# Altium schematic symbol library Connectors.SchLib: 71 symbols
Pins are listed as number, name and electrical type; pins without a type are passive.

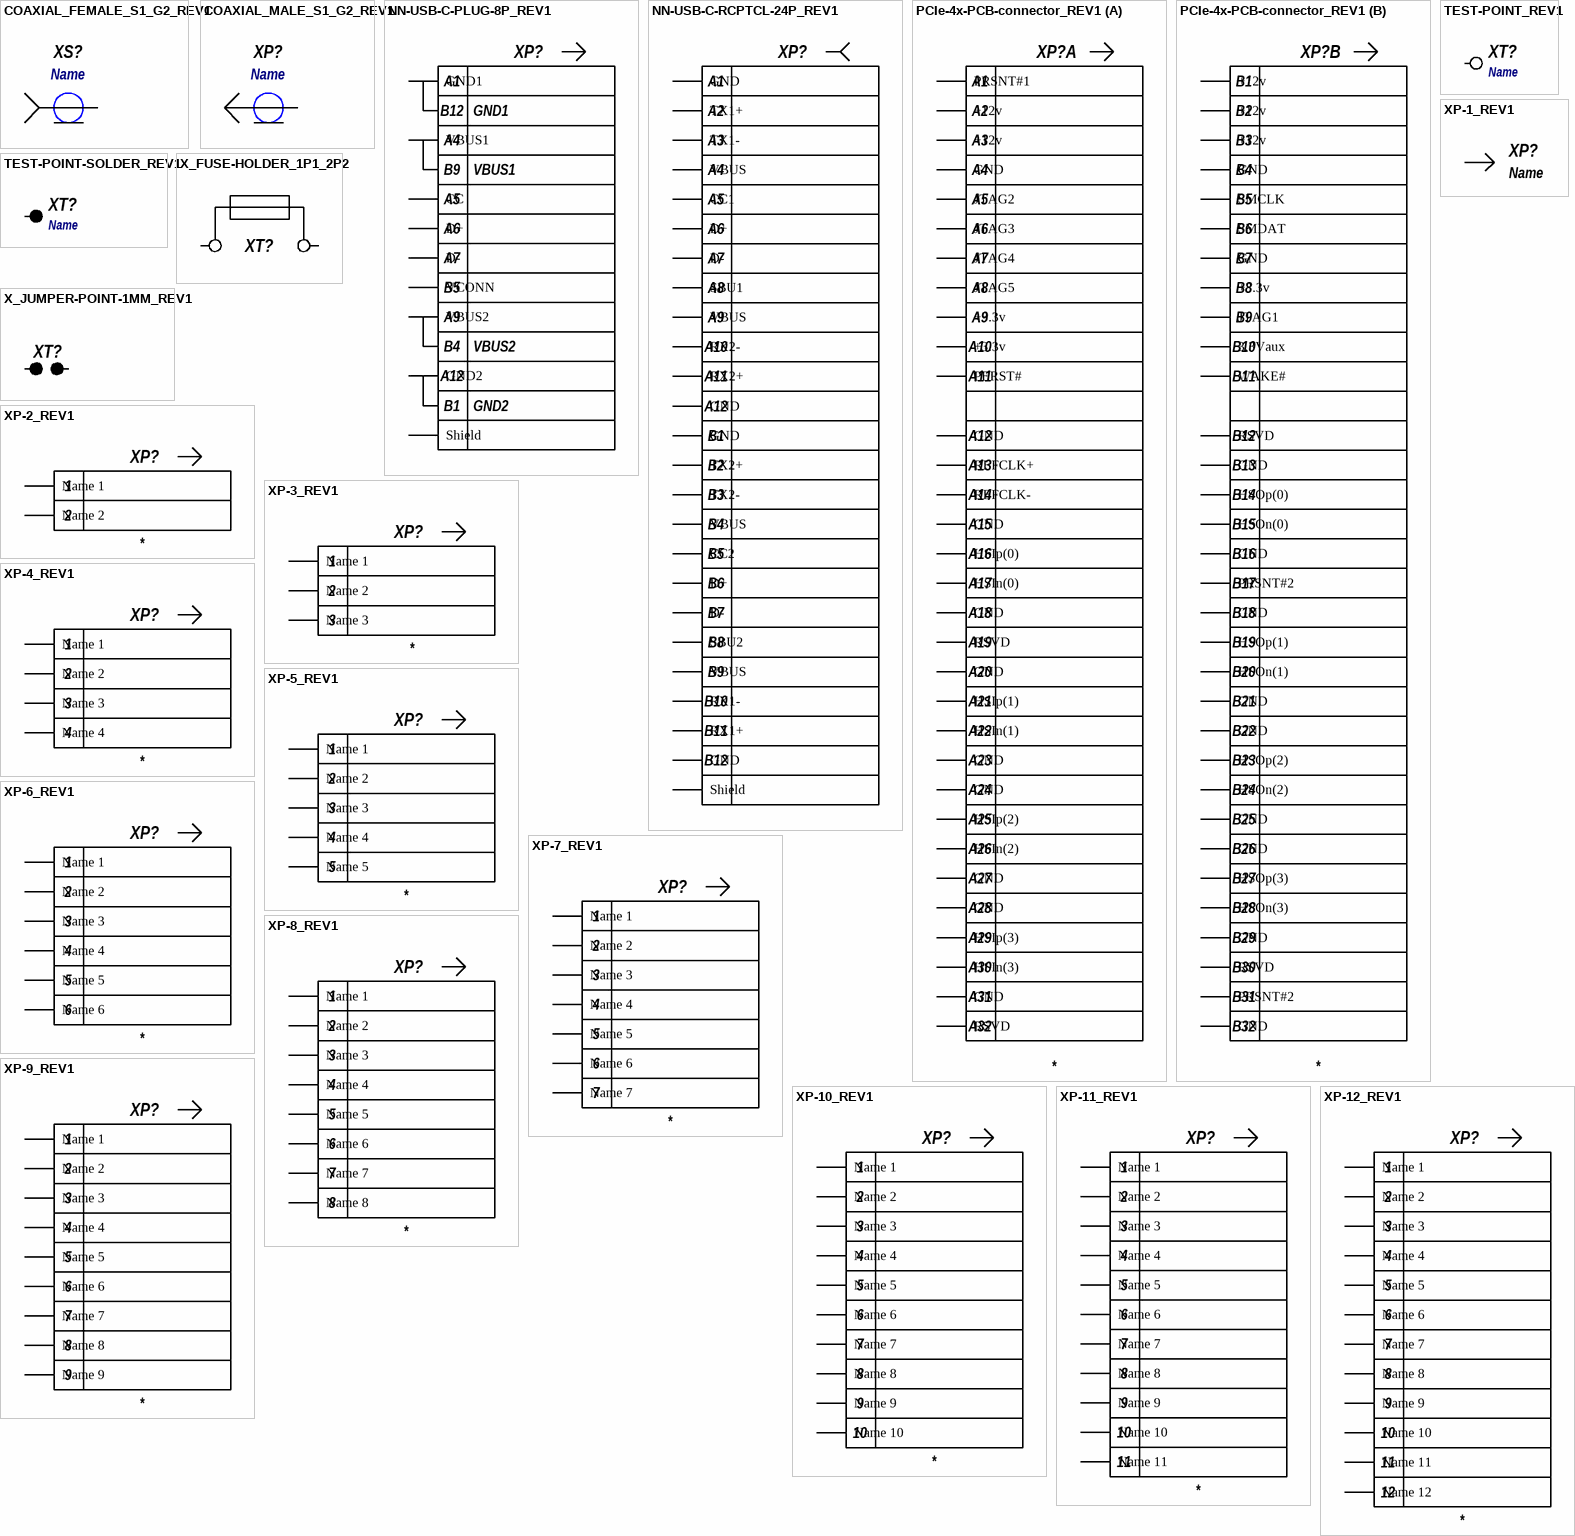
[diagram p0: symbols COAXIAL_FEMALE_S1_G2_REV1 to XP-12_REV1]

## COAXIAL_FEMALE_S1_G2_REV1
designator XS?
Name: Name
pins: 1, 2

## COAXIAL_MALE_S1_G2_REV1
designator XP?
Name: Name
pins: 1, 2

## NN-USB-C-PLUG-8P_REV1
designator XP?  (value not drawn)
PartNumber: *
footprint USB-C-PLUG-8P
pins: A1 GND1, A4 VBUS1, A5 CC, A6 D+, A7 D-, A9 VBUS2, A12 GND2, B5 VCONN, Shield
text: B12; B9; B4; B1

## NN-USB-C-RCPTCL-24P_REV1
designator XP?  (value not drawn)
PartNumber: *
pins: A1 GND, A2 TX1+, A3 TX1-, A4 VBUS, A5 CC1, A6 D+, A7 D-, A8 SBU1, A9 VBUS, A10 RX2-, A11 RX2+, A12 GND, B1 GND, B2 TX2+, B3 TX2-, B4 VBUS, B5 CC2, B6 D+, B7 D-, B8 SBU2, B9 VBUS, B10 RX1-, B11 RX1+, B12 GND, Shield

## PCIe-4x-PCB-connector_REV1
designator XP?
PartNumber: *
footprint PCIe-4x-PCB-connector (PCB connector for PCI Express 4 line)
part A pins: A1 PRSNT#1, A2 +12v, A3 +12v, A4 GND, A5 JTAG2, A6 JTAG3, A7 JTAG4, A8 JTAG5, A9 +3.3v, A10 +3.3v, A11 PERST#, A12 GND, A13 REFCLK+, A14 REFCLK-, A15 GND, A16 HSIp(0), A17 HSIn(0), A18 GND, A19 RSVD, A20 GND, A21 HSIp(1), A22 HSIn(1), A23 GND, A24 GND, A25 HSIp(2), A26 HSIn(2), A27 GND, A28 GND, A29 HSIp(3), A30 HSIn(3), A31 GND, A32 RSVD
part B pins: B1 +12v, B2 +12v, B3 +12v, B4 GND, B5 SMCLK, B6 SMDAT, B7 GND, B8 +3.3v, B9 JTAG1, B10 3.3Vaux, B11 WAKE#, B12 RSVD, B13 GND, B14 HSOp(0), B15 HSOn(0), B16 GND, B17 PRSNT#2, B18 GND, B19 HSOp(1), B20 HSOn(1), B21 GND, B22 GND, B23 HSOp(2), B24 HSOn(2), B25 GND, B26 GND, B27 HSOp(3), B28 HSOn(3), B29 GND, B30 RSVD, B31 PRSNT#2, B32 GND

## TEST-POINT-SOLDER_REV1
designator XT?
Name: Name
pins: 1

## TEST-POINT_REV1
designator XT?
Name: Name
pins: 1

## X_FUSE-HOLDER_1P1_2P2
designator XT?
PartNumber: *
pins: 1, 2

## X_JUMPER-POINT-1MM_REV1
designator XT?
PartNumber: *
pins: 1, 2

## XP-1_REV1
designator XP?  (value not drawn)
PartNumber: *; Name: Name
pins: 1 =Name

## XP-2_REV1
designator XP?
PartNumber: *
pins: 1 Name 1, 2 Name 2

## XP-3_REV1
designator XP?
PartNumber: *
pins: 1 Name 1, 2 Name 2, 3 Name 3

## XP-4_REV1
designator XP?
PartNumber: *
pins: 1 Name 1, 2 Name 2, 3 Name 3, 4 Name 4

## XP-5_REV1
designator XP?
PartNumber: *
pins: 1 Name 1, 2 Name 2, 3 Name 3, 4 Name 4, 5 Name 5

## XP-6_REV1
designator XP?
PartNumber: *
pins: 1 Name 1, 2 Name 2, 3 Name 3, 4 Name 4, 5 Name 5, 6 Name 6

## XP-7_REV1
designator XP?
PartNumber: *
pins: 1 Name 1, 2 Name 2, 3 Name 3, 4 Name 4, 5 Name 5, 6 Name 6, 7 Name 7

## XP-8_REV1
designator XP?
PartNumber: *
pins: 1 Name 1, 2 Name 2, 3 Name 3, 4 Name 4, 5 Name 5, 6 Name 6, 7 Name 7, 8 Name 8

## XP-9_REV1
designator XP?
PartNumber: *
pins: 1 Name 1, 2 Name 2, 3 Name 3, 4 Name 4, 5 Name 5, 6 Name 6, 7 Name 7, 8 Name 8, 9 Name 9

## XP-10_REV1
designator XP?
PartNumber: *
pins: 1 Name 1, 2 Name 2, 3 Name 3, 4 Name 4, 5 Name 5, 6 Name 6, 7 Name 7, 8 Name 8, 9 Name 9, 10 Name 10

## XP-11_REV1
designator XP?
PartNumber: *
pins: 1 Name 1, 2 Name 2, 3 Name 3, 4 Name 4, 5 Name 5, 6 Name 6, 7 Name 7, 8 Name 8, 9 Name 9, 10 Name 10, 11 Name 11

## XP-12_REV1
designator XP?
PartNumber: *
pins: 1 Name 1, 2 Name 2, 3 Name 3, 4 Name 4, 5 Name 5, 6 Name 6, 7 Name 7, 8 Name 8, 9 Name 9, 10 Name 10, 11 Name 11, 12 Name 12

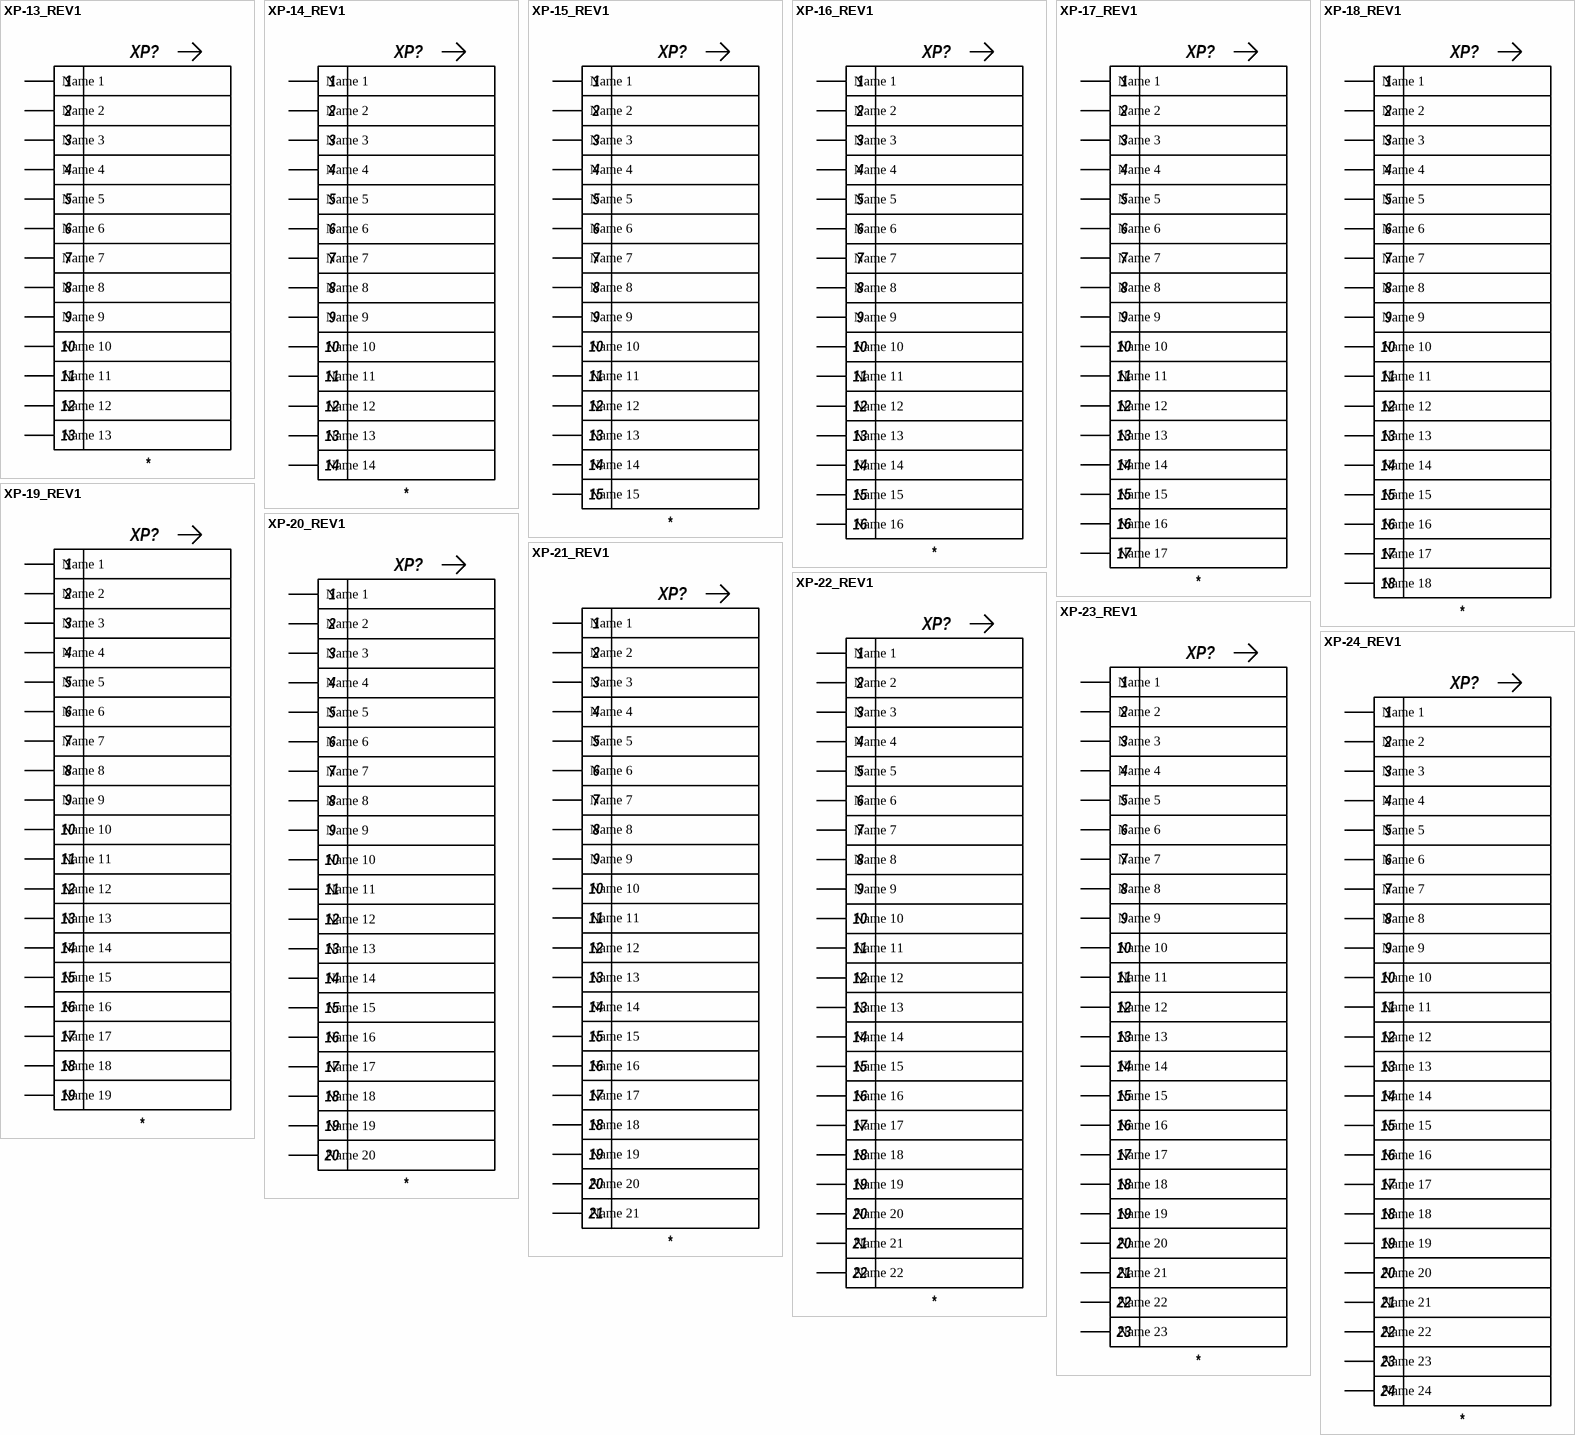
[diagram p1: symbols XP-13_REV1 to XP-24_REV1]

## XP-13_REV1
designator XP?
PartNumber: *
pins: 1 Name 1, 2 Name 2, 3 Name 3, 4 Name 4, 5 Name 5, 6 Name 6, 7 Name 7, 8 Name 8, 9 Name 9, 10 Name 10, 11 Name 11, 12 Name 12, 13 Name 13

## XP-14_REV1
designator XP?
PartNumber: *
pins: 1 Name 1, 2 Name 2, 3 Name 3, 4 Name 4, 5 Name 5, 6 Name 6, 7 Name 7, 8 Name 8, 9 Name 9, 10 Name 10, 11 Name 11, 12 Name 12, 13 Name 13, 14 Name 14

## XP-15_REV1
designator XP?
PartNumber: *
pins: 1 Name 1, 2 Name 2, 3 Name 3, 4 Name 4, 5 Name 5, 6 Name 6, 7 Name 7, 8 Name 8, 9 Name 9, 10 Name 10, 11 Name 11, 12 Name 12, 13 Name 13, 14 Name 14, 15 Name 15

## XP-16_REV1
designator XP?
PartNumber: *
pins: 1 Name 1, 2 Name 2, 3 Name 3, 4 Name 4, 5 Name 5, 6 Name 6, 7 Name 7, 8 Name 8, 9 Name 9, 10 Name 10, 11 Name 11, 12 Name 12, 13 Name 13, 14 Name 14, 15 Name 15, 16 Name 16

## XP-17_REV1
designator XP?
PartNumber: *
pins: 1 Name 1, 2 Name 2, 3 Name 3, 4 Name 4, 5 Name 5, 6 Name 6, 7 Name 7, 8 Name 8, 9 Name 9, 10 Name 10, 11 Name 11, 12 Name 12, 13 Name 13, 14 Name 14, 15 Name 15, 16 Name 16, 17 Name 17

## XP-18_REV1
designator XP?
PartNumber: *
pins: 1 Name 1, 2 Name 2, 3 Name 3, 4 Name 4, 5 Name 5, 6 Name 6, 7 Name 7, 8 Name 8, 9 Name 9, 10 Name 10, 11 Name 11, 12 Name 12, 13 Name 13, 14 Name 14, 15 Name 15, 16 Name 16, 17 Name 17, 18 Name 18

## XP-19_REV1
designator XP?
PartNumber: *
pins: 1 Name 1, 2 Name 2, 3 Name 3, 4 Name 4, 5 Name 5, 6 Name 6, 7 Name 7, 8 Name 8, 9 Name 9, 10 Name 10, 11 Name 11, 12 Name 12, 13 Name 13, 14 Name 14, 15 Name 15, 16 Name 16, 17 Name 17, 18 Name 18, 19 Name 19

## XP-20_REV1
designator XP?
PartNumber: *
pins: 1 Name 1, 2 Name 2, 3 Name 3, 4 Name 4, 5 Name 5, 6 Name 6, 7 Name 7, 8 Name 8, 9 Name 9, 10 Name 10, 11 Name 11, 12 Name 12, 13 Name 13, 14 Name 14, 15 Name 15, 16 Name 16, 17 Name 17, 18 Name 18, 19 Name 19, 20 Name 20

## XP-21_REV1
designator XP?
PartNumber: *
pins: 1 Name 1, 2 Name 2, 3 Name 3, 4 Name 4, 5 Name 5, 6 Name 6, 7 Name 7, 8 Name 8, 9 Name 9, 10 Name 10, 11 Name 11, 12 Name 12, 13 Name 13, 14 Name 14, 15 Name 15, 16 Name 16, 17 Name 17, 18 Name 18, 19 Name 19, 20 Name 20, 21 Name 21

## XP-22_REV1
designator XP?
PartNumber: *
pins: 1 Name 1, 2 Name 2, 3 Name 3, 4 Name 4, 5 Name 5, 6 Name 6, 7 Name 7, 8 Name 8, 9 Name 9, 10 Name 10, 11 Name 11, 12 Name 12, 13 Name 13, 14 Name 14, 15 Name 15, 16 Name 16, 17 Name 17, 18 Name 18, 19 Name 19, 20 Name 20, 21 Name 21, 22 Name 22

## XP-23_REV1
designator XP?
PartNumber: *
pins: 1 Name 1, 2 Name 2, 3 Name 3, 4 Name 4, 5 Name 5, 6 Name 6, 7 Name 7, 8 Name 8, 9 Name 9, 10 Name 10, 11 Name 11, 12 Name 12, 13 Name 13, 14 Name 14, 15 Name 15, 16 Name 16, 17 Name 17, 18 Name 18, 19 Name 19, 20 Name 20, 21 Name 21, 22 Name 22, 23 Name 23

## XP-24_REV1
designator XP?
PartNumber: *
pins: 1 Name 1, 2 Name 2, 3 Name 3, 4 Name 4, 5 Name 5, 6 Name 6, 7 Name 7, 8 Name 8, 9 Name 9, 10 Name 10, 11 Name 11, 12 Name 12, 13 Name 13, 14 Name 14, 15 Name 15, 16 Name 16, 17 Name 17, 18 Name 18, 19 Name 19, 20 Name 20, 21 Name 21, 22 Name 22, 23 Name 23, 24 Name 24

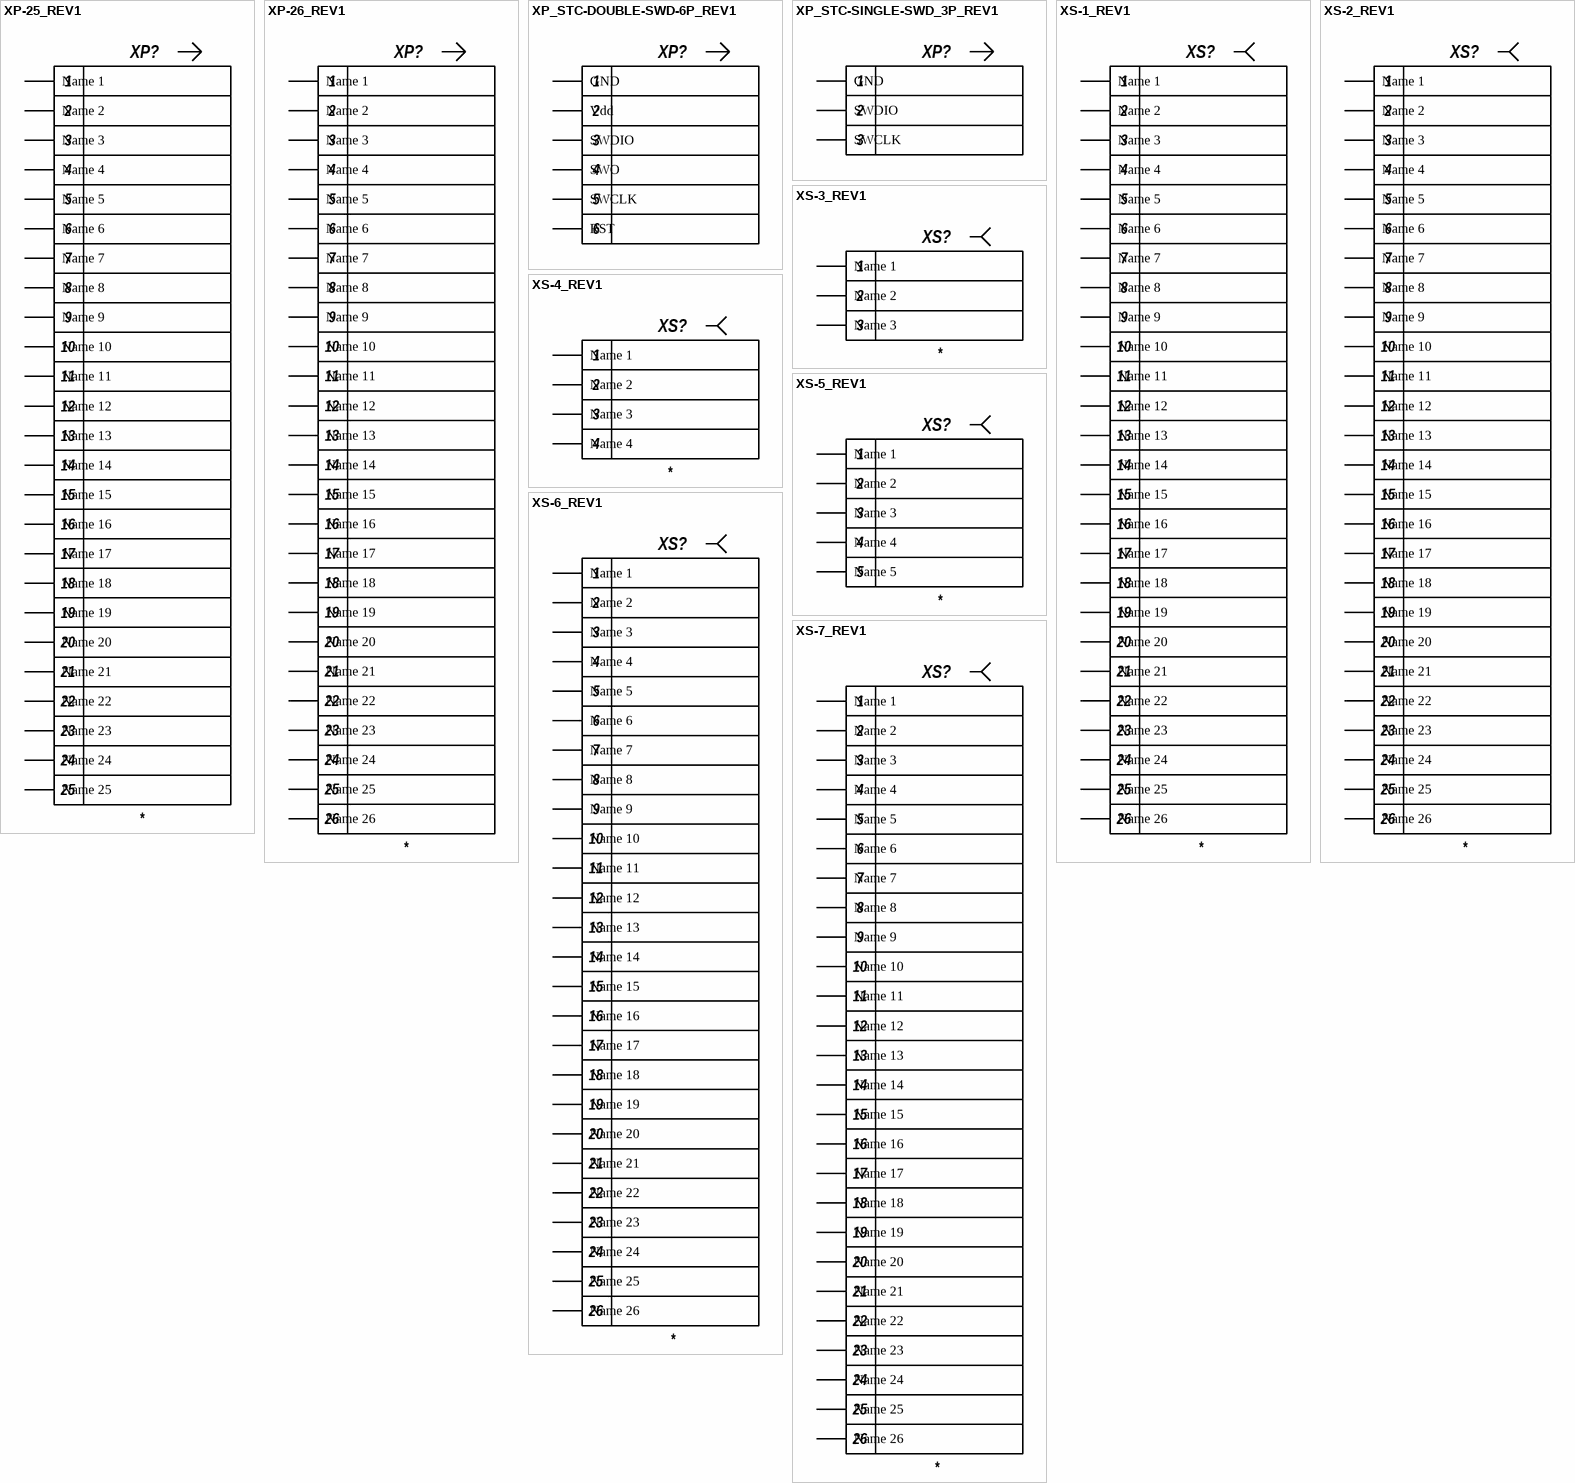
[diagram p2: symbols XP-25_REV1 to XS-7_REV1]

## XP-25_REV1
designator XP?
PartNumber: *
pins: 1 Name 1, 2 Name 2, 3 Name 3, 4 Name 4, 5 Name 5, 6 Name 6, 7 Name 7, 8 Name 8, 9 Name 9, 10 Name 10, 11 Name 11, 12 Name 12, 13 Name 13, 14 Name 14, 15 Name 15, 16 Name 16, 17 Name 17, 18 Name 18, 19 Name 19, 20 Name 20, 21 Name 21, 22 Name 22, 23 Name 23, 24 Name 24, 25 Name 25

## XP-26_REV1
designator XP?
PartNumber: *
pins: 1 Name 1, 2 Name 2, 3 Name 3, 4 Name 4, 5 Name 5, 6 Name 6, 7 Name 7, 8 Name 8, 9 Name 9, 10 Name 10, 11 Name 11, 12 Name 12, 13 Name 13, 14 Name 14, 15 Name 15, 16 Name 16, 17 Name 17, 18 Name 18, 19 Name 19, 20 Name 20, 21 Name 21, 22 Name 22, 23 Name 23, 24 Name 24, 25 Name 25, 26 Name 26

## XP_STC-DOUBLE-SWD-6P_REV1
designator XP?  (value not drawn)
PartNumber: *
pins: 1 GND, 2 Vdd, 3 SWDIO, 4 SWO, 5 SWCLK, 6 RST

## XP_STC-SINGLE-SWD_3P_REV1
designator XP?  (value not drawn)
PartNumber: *
pins: 1 GND, 2 SWDIO, 3 SWCLK

## XS-1_REV1
designator XS?
PartNumber: *
pins: 1 Name 1, 2 Name 2, 3 Name 3, 4 Name 4, 5 Name 5, 6 Name 6, 7 Name 7, 8 Name 8, 9 Name 9, 10 Name 10, 11 Name 11, 12 Name 12, 13 Name 13, 14 Name 14, 15 Name 15, 16 Name 16, 17 Name 17, 18 Name 18, 19 Name 19, 20 Name 20, 21 Name 21, 22 Name 22, 23 Name 23, 24 Name 24, 25 Name 25, 26 Name 26

## XS-2_REV1
designator XS?
PartNumber: *
pins: 1 Name 1, 2 Name 2, 3 Name 3, 4 Name 4, 5 Name 5, 6 Name 6, 7 Name 7, 8 Name 8, 9 Name 9, 10 Name 10, 11 Name 11, 12 Name 12, 13 Name 13, 14 Name 14, 15 Name 15, 16 Name 16, 17 Name 17, 18 Name 18, 19 Name 19, 20 Name 20, 21 Name 21, 22 Name 22, 23 Name 23, 24 Name 24, 25 Name 25, 26 Name 26

## XS-3_REV1
designator XS?
PartNumber: *
pins: 1 Name 1, 2 Name 2, 3 Name 3

## XS-4_REV1
designator XS?
PartNumber: *
pins: 1 Name 1, 2 Name 2, 3 Name 3, 4 Name 4

## XS-5_REV1
designator XS?
PartNumber: *
pins: 1 Name 1, 2 Name 2, 3 Name 3, 4 Name 4, 5 Name 5

## XS-6_REV1
designator XS?
PartNumber: *
pins: 1 Name 1, 2 Name 2, 3 Name 3, 4 Name 4, 5 Name 5, 6 Name 6, 7 Name 7, 8 Name 8, 9 Name 9, 10 Name 10, 11 Name 11, 12 Name 12, 13 Name 13, 14 Name 14, 15 Name 15, 16 Name 16, 17 Name 17, 18 Name 18, 19 Name 19, 20 Name 20, 21 Name 21, 22 Name 22, 23 Name 23, 24 Name 24, 25 Name 25, 26 Name 26

## XS-7_REV1
designator XS?
PartNumber: *
pins: 1 Name 1, 2 Name 2, 3 Name 3, 4 Name 4, 5 Name 5, 6 Name 6, 7 Name 7, 8 Name 8, 9 Name 9, 10 Name 10, 11 Name 11, 12 Name 12, 13 Name 13, 14 Name 14, 15 Name 15, 16 Name 16, 17 Name 17, 18 Name 18, 19 Name 19, 20 Name 20, 21 Name 21, 22 Name 22, 23 Name 23, 24 Name 24, 25 Name 25, 26 Name 26

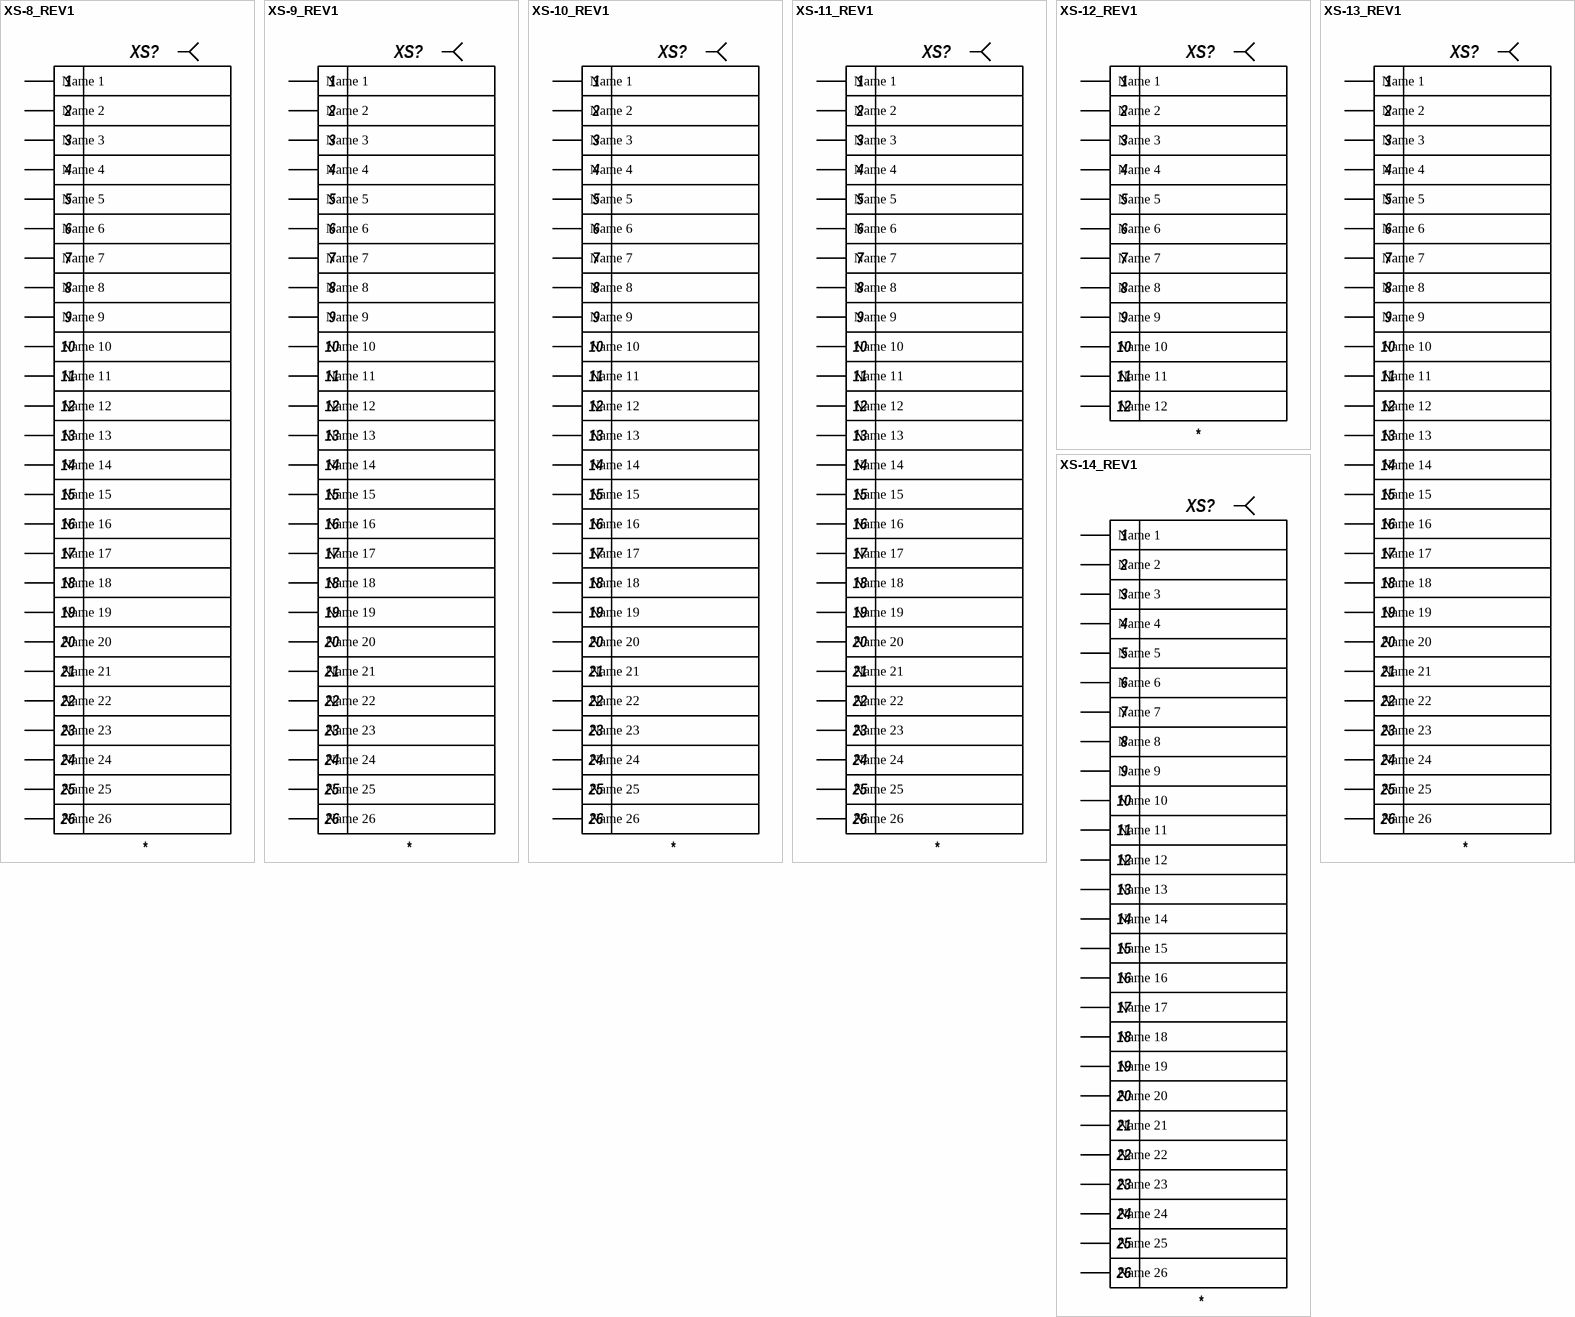
[diagram p3: symbols XS-8_REV1 to XS-14_REV1]

## XS-8_REV1
designator XS?
PartNumber: *
pins: 1 Name 1, 2 Name 2, 3 Name 3, 4 Name 4, 5 Name 5, 6 Name 6, 7 Name 7, 8 Name 8, 9 Name 9, 10 Name 10, 11 Name 11, 12 Name 12, 13 Name 13, 14 Name 14, 15 Name 15, 16 Name 16, 17 Name 17, 18 Name 18, 19 Name 19, 20 Name 20, 21 Name 21, 22 Name 22, 23 Name 23, 24 Name 24, 25 Name 25, 26 Name 26

## XS-9_REV1
designator XS?
PartNumber: *
pins: 1 Name 1, 2 Name 2, 3 Name 3, 4 Name 4, 5 Name 5, 6 Name 6, 7 Name 7, 8 Name 8, 9 Name 9, 10 Name 10, 11 Name 11, 12 Name 12, 13 Name 13, 14 Name 14, 15 Name 15, 16 Name 16, 17 Name 17, 18 Name 18, 19 Name 19, 20 Name 20, 21 Name 21, 22 Name 22, 23 Name 23, 24 Name 24, 25 Name 25, 26 Name 26

## XS-10_REV1
designator XS?
PartNumber: *
pins: 1 Name 1, 2 Name 2, 3 Name 3, 4 Name 4, 5 Name 5, 6 Name 6, 7 Name 7, 8 Name 8, 9 Name 9, 10 Name 10, 11 Name 11, 12 Name 12, 13 Name 13, 14 Name 14, 15 Name 15, 16 Name 16, 17 Name 17, 18 Name 18, 19 Name 19, 20 Name 20, 21 Name 21, 22 Name 22, 23 Name 23, 24 Name 24, 25 Name 25, 26 Name 26

## XS-11_REV1
designator XS?
PartNumber: *
pins: 1 Name 1, 2 Name 2, 3 Name 3, 4 Name 4, 5 Name 5, 6 Name 6, 7 Name 7, 8 Name 8, 9 Name 9, 10 Name 10, 11 Name 11, 12 Name 12, 13 Name 13, 14 Name 14, 15 Name 15, 16 Name 16, 17 Name 17, 18 Name 18, 19 Name 19, 20 Name 20, 21 Name 21, 22 Name 22, 23 Name 23, 24 Name 24, 25 Name 25, 26 Name 26

## XS-12_REV1
designator XS?
PartNumber: *
pins: 1 Name 1, 2 Name 2, 3 Name 3, 4 Name 4, 5 Name 5, 6 Name 6, 7 Name 7, 8 Name 8, 9 Name 9, 10 Name 10, 11 Name 11, 12 Name 12

## XS-13_REV1
designator XS?
PartNumber: *
pins: 1 Name 1, 2 Name 2, 3 Name 3, 4 Name 4, 5 Name 5, 6 Name 6, 7 Name 7, 8 Name 8, 9 Name 9, 10 Name 10, 11 Name 11, 12 Name 12, 13 Name 13, 14 Name 14, 15 Name 15, 16 Name 16, 17 Name 17, 18 Name 18, 19 Name 19, 20 Name 20, 21 Name 21, 22 Name 22, 23 Name 23, 24 Name 24, 25 Name 25, 26 Name 26

## XS-14_REV1
designator XS?
PartNumber: *
pins: 1 Name 1, 2 Name 2, 3 Name 3, 4 Name 4, 5 Name 5, 6 Name 6, 7 Name 7, 8 Name 8, 9 Name 9, 10 Name 10, 11 Name 11, 12 Name 12, 13 Name 13, 14 Name 14, 15 Name 15, 16 Name 16, 17 Name 17, 18 Name 18, 19 Name 19, 20 Name 20, 21 Name 21, 22 Name 22, 23 Name 23, 24 Name 24, 25 Name 25, 26 Name 26

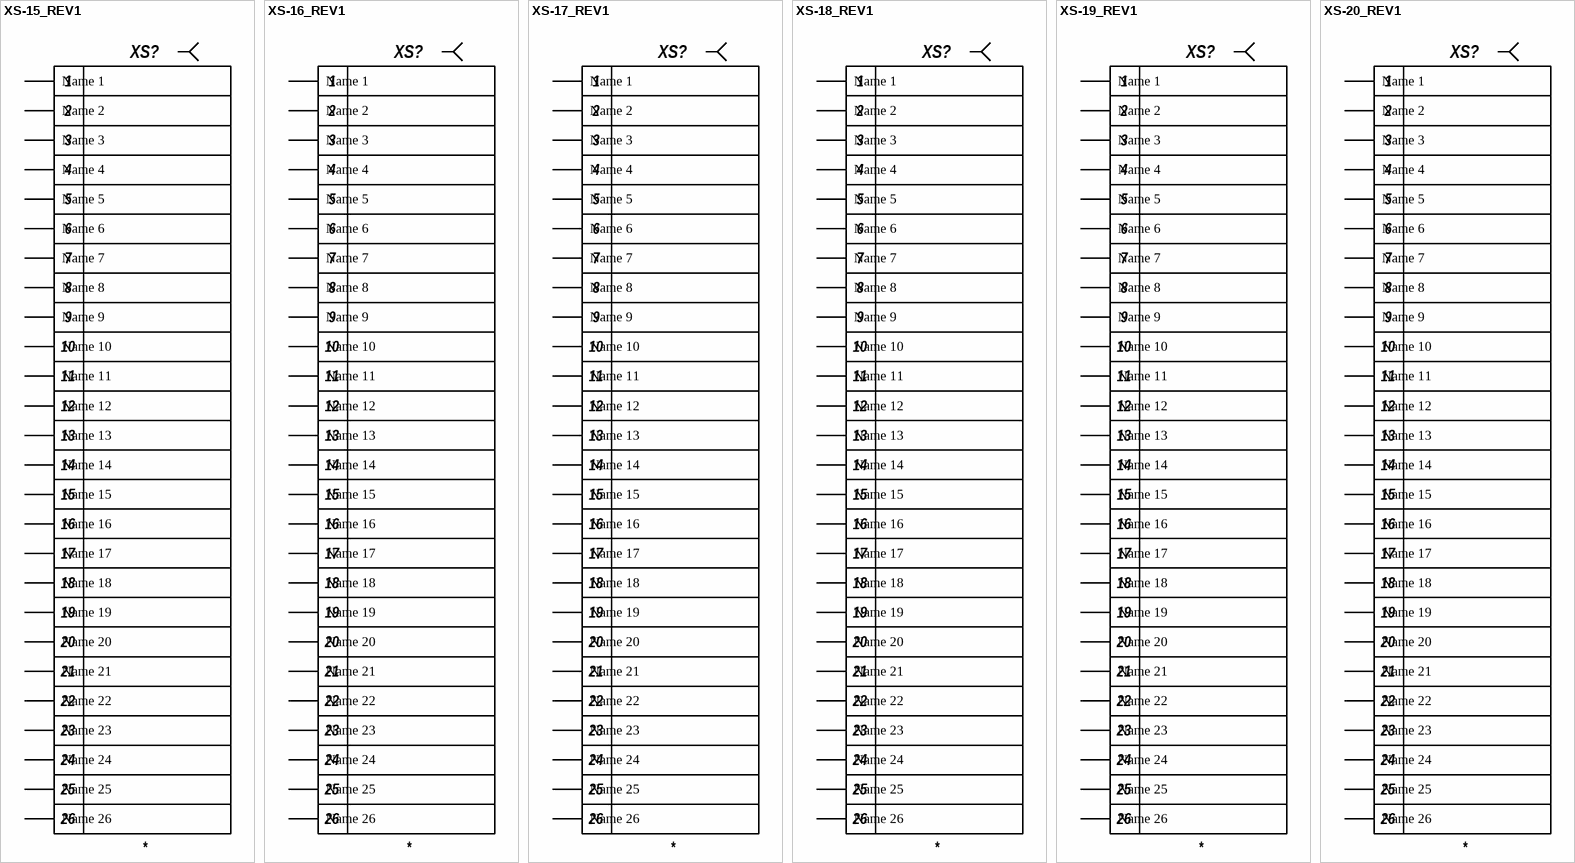
[diagram p4: symbols XS-15_REV1 to XS-20_REV1]

## XS-15_REV1
designator XS?
PartNumber: *
pins: 1 Name 1, 2 Name 2, 3 Name 3, 4 Name 4, 5 Name 5, 6 Name 6, 7 Name 7, 8 Name 8, 9 Name 9, 10 Name 10, 11 Name 11, 12 Name 12, 13 Name 13, 14 Name 14, 15 Name 15, 16 Name 16, 17 Name 17, 18 Name 18, 19 Name 19, 20 Name 20, 21 Name 21, 22 Name 22, 23 Name 23, 24 Name 24, 25 Name 25, 26 Name 26

## XS-16_REV1
designator XS?
PartNumber: *
pins: 1 Name 1, 2 Name 2, 3 Name 3, 4 Name 4, 5 Name 5, 6 Name 6, 7 Name 7, 8 Name 8, 9 Name 9, 10 Name 10, 11 Name 11, 12 Name 12, 13 Name 13, 14 Name 14, 15 Name 15, 16 Name 16, 17 Name 17, 18 Name 18, 19 Name 19, 20 Name 20, 21 Name 21, 22 Name 22, 23 Name 23, 24 Name 24, 25 Name 25, 26 Name 26

## XS-17_REV1
designator XS?
PartNumber: *
pins: 1 Name 1, 2 Name 2, 3 Name 3, 4 Name 4, 5 Name 5, 6 Name 6, 7 Name 7, 8 Name 8, 9 Name 9, 10 Name 10, 11 Name 11, 12 Name 12, 13 Name 13, 14 Name 14, 15 Name 15, 16 Name 16, 17 Name 17, 18 Name 18, 19 Name 19, 20 Name 20, 21 Name 21, 22 Name 22, 23 Name 23, 24 Name 24, 25 Name 25, 26 Name 26

## XS-18_REV1
designator XS?
PartNumber: *
pins: 1 Name 1, 2 Name 2, 3 Name 3, 4 Name 4, 5 Name 5, 6 Name 6, 7 Name 7, 8 Name 8, 9 Name 9, 10 Name 10, 11 Name 11, 12 Name 12, 13 Name 13, 14 Name 14, 15 Name 15, 16 Name 16, 17 Name 17, 18 Name 18, 19 Name 19, 20 Name 20, 21 Name 21, 22 Name 22, 23 Name 23, 24 Name 24, 25 Name 25, 26 Name 26

## XS-19_REV1
designator XS?
PartNumber: *
pins: 1 Name 1, 2 Name 2, 3 Name 3, 4 Name 4, 5 Name 5, 6 Name 6, 7 Name 7, 8 Name 8, 9 Name 9, 10 Name 10, 11 Name 11, 12 Name 12, 13 Name 13, 14 Name 14, 15 Name 15, 16 Name 16, 17 Name 17, 18 Name 18, 19 Name 19, 20 Name 20, 21 Name 21, 22 Name 22, 23 Name 23, 24 Name 24, 25 Name 25, 26 Name 26

## XS-20_REV1
designator XS?
PartNumber: *
pins: 1 Name 1, 2 Name 2, 3 Name 3, 4 Name 4, 5 Name 5, 6 Name 6, 7 Name 7, 8 Name 8, 9 Name 9, 10 Name 10, 11 Name 11, 12 Name 12, 13 Name 13, 14 Name 14, 15 Name 15, 16 Name 16, 17 Name 17, 18 Name 18, 19 Name 19, 20 Name 20, 21 Name 21, 22 Name 22, 23 Name 23, 24 Name 24, 25 Name 25, 26 Name 26

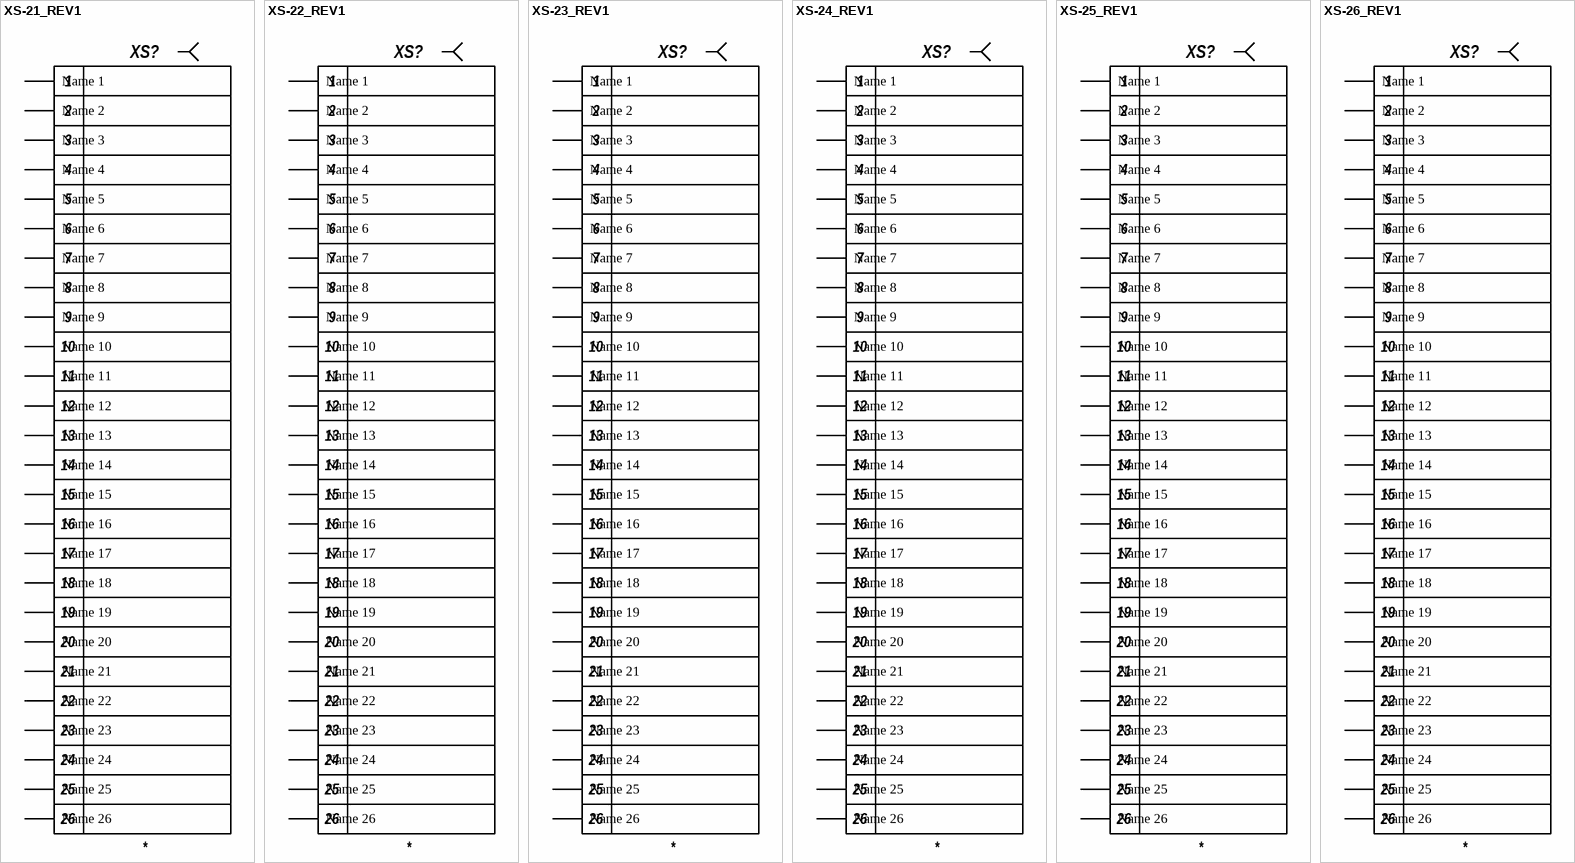
[diagram p5: symbols XS-21_REV1 to XS-26_REV1]

## XS-21_REV1
designator XS?
PartNumber: *
pins: 1 Name 1, 2 Name 2, 3 Name 3, 4 Name 4, 5 Name 5, 6 Name 6, 7 Name 7, 8 Name 8, 9 Name 9, 10 Name 10, 11 Name 11, 12 Name 12, 13 Name 13, 14 Name 14, 15 Name 15, 16 Name 16, 17 Name 17, 18 Name 18, 19 Name 19, 20 Name 20, 21 Name 21, 22 Name 22, 23 Name 23, 24 Name 24, 25 Name 25, 26 Name 26

## XS-22_REV1
designator XS?
PartNumber: *
pins: 1 Name 1, 2 Name 2, 3 Name 3, 4 Name 4, 5 Name 5, 6 Name 6, 7 Name 7, 8 Name 8, 9 Name 9, 10 Name 10, 11 Name 11, 12 Name 12, 13 Name 13, 14 Name 14, 15 Name 15, 16 Name 16, 17 Name 17, 18 Name 18, 19 Name 19, 20 Name 20, 21 Name 21, 22 Name 22, 23 Name 23, 24 Name 24, 25 Name 25, 26 Name 26

## XS-23_REV1
designator XS?
PartNumber: *
pins: 1 Name 1, 2 Name 2, 3 Name 3, 4 Name 4, 5 Name 5, 6 Name 6, 7 Name 7, 8 Name 8, 9 Name 9, 10 Name 10, 11 Name 11, 12 Name 12, 13 Name 13, 14 Name 14, 15 Name 15, 16 Name 16, 17 Name 17, 18 Name 18, 19 Name 19, 20 Name 20, 21 Name 21, 22 Name 22, 23 Name 23, 24 Name 24, 25 Name 25, 26 Name 26

## XS-24_REV1
designator XS?
PartNumber: *
pins: 1 Name 1, 2 Name 2, 3 Name 3, 4 Name 4, 5 Name 5, 6 Name 6, 7 Name 7, 8 Name 8, 9 Name 9, 10 Name 10, 11 Name 11, 12 Name 12, 13 Name 13, 14 Name 14, 15 Name 15, 16 Name 16, 17 Name 17, 18 Name 18, 19 Name 19, 20 Name 20, 21 Name 21, 22 Name 22, 23 Name 23, 24 Name 24, 25 Name 25, 26 Name 26

## XS-25_REV1
designator XS?
PartNumber: *
pins: 1 Name 1, 2 Name 2, 3 Name 3, 4 Name 4, 5 Name 5, 6 Name 6, 7 Name 7, 8 Name 8, 9 Name 9, 10 Name 10, 11 Name 11, 12 Name 12, 13 Name 13, 14 Name 14, 15 Name 15, 16 Name 16, 17 Name 17, 18 Name 18, 19 Name 19, 20 Name 20, 21 Name 21, 22 Name 22, 23 Name 23, 24 Name 24, 25 Name 25, 26 Name 26

## XS-26_REV1
designator XS?
PartNumber: *
pins: 1 Name 1, 2 Name 2, 3 Name 3, 4 Name 4, 5 Name 5, 6 Name 6, 7 Name 7, 8 Name 8, 9 Name 9, 10 Name 10, 11 Name 11, 12 Name 12, 13 Name 13, 14 Name 14, 15 Name 15, 16 Name 16, 17 Name 17, 18 Name 18, 19 Name 19, 20 Name 20, 21 Name 21, 22 Name 22, 23 Name 23, 24 Name 24, 25 Name 25, 26 Name 26

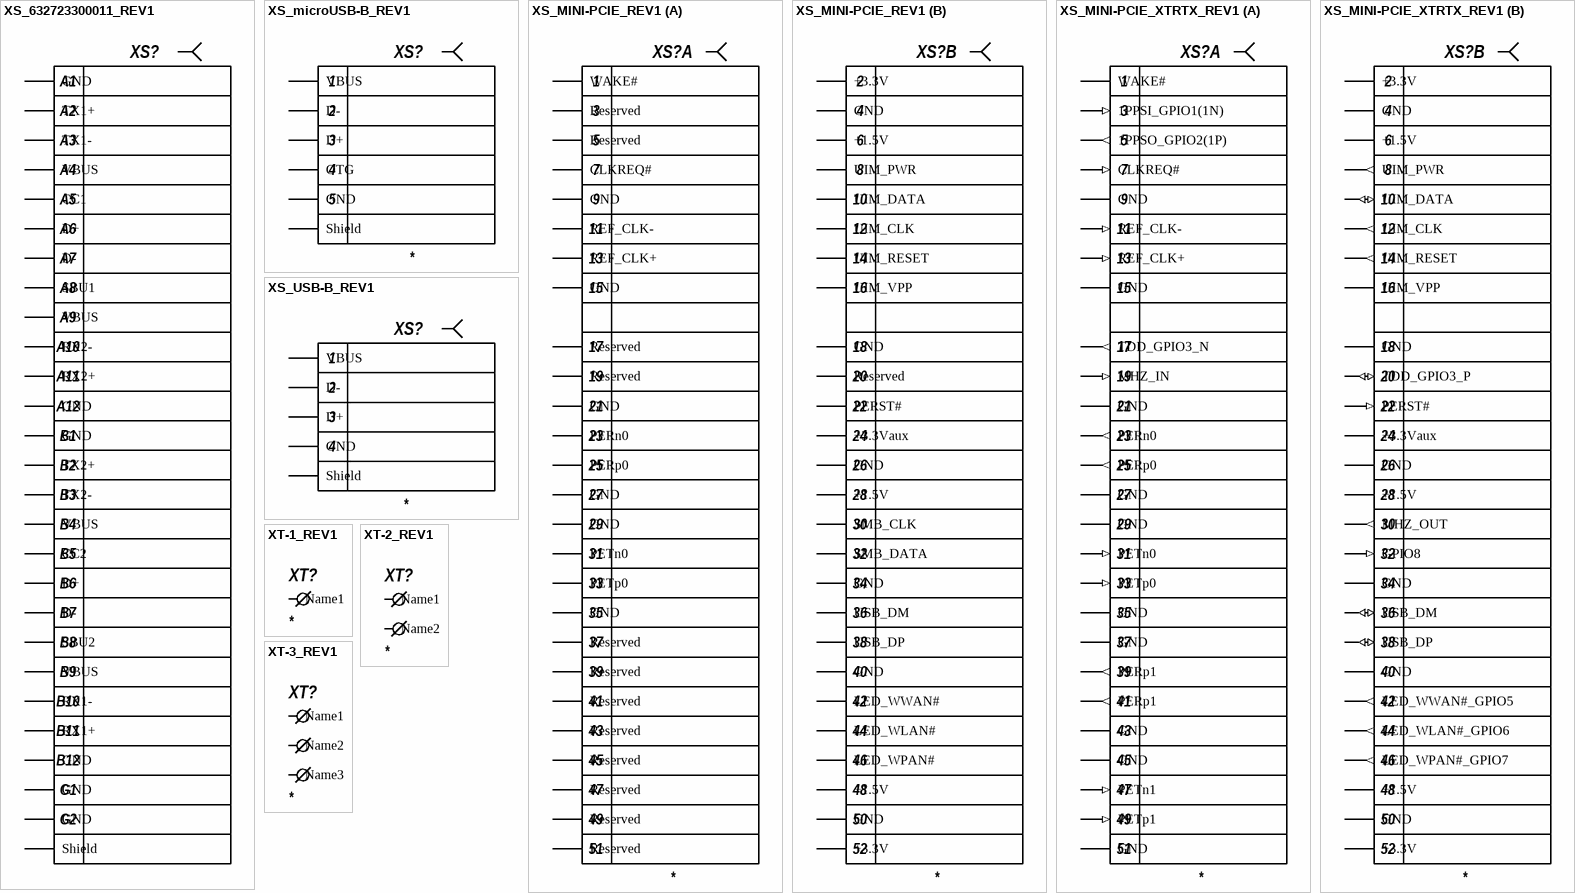
[diagram p6: symbols XS_632723300011_REV1 to XT-3_REV1]

## XS_632723300011_REV1
designator XS?  (value not drawn)
PartNumber: *
pins: A1 GND, A2 TX1+, A3 TX1-, A4 VBUS, A5 CC1, A6 D+, A7 D-, A8 SBU1, A9 VBUS, A10 RX2-, A11 RX2+, A12 GND, B1 GND, B2 TX2+, B3 TX2-, B4 VBUS, B5 CC2, B6 D+, B7 D-, B8 SBU2, B9 VBUS, B10 RX1-, B11 RX1+, B12 GND, G1 GND, G2 GND, Shield

## XS_microUSB-B_REV1
designator XS?
PartNumber: *
pins: 1 VBUS, 2 D-, 3 D+, 4 OTG, 5 GND, Shield

## XS_MINI-PCIE_REV1
designator XS?
PartNumber: *
part A pins: 1 WAKE#, 3 Reserved, 5 Reserved, 7 CLKREQ#, 9 GND, 11 REF_CLK-, 13 REF_CLK+, 15 GND, 17 Reserved, 19 Reserved, 21 GND, 23 PERn0, 25 PERp0, 27 GND, 29 GND, 31 PETn0, 33 PETp0, 35 GND, 37 Reserved, 39 Reserved, 41 Reserved, 43 Reserved, 45 Reserved, 47 Reserved, 49 Reserved, 51 Reserved
part B pins: 2 +3.3V, 4 GND, 6 +1.5V, 8 UIM_PWR, 10 UIM_DATA, 12 UIM_CLK, 14 UIM_RESET, 16 UIM_VPP, 18 GND, 20 Reserved, 22 PERST#, 24 +3.3Vaux, 26 GND, 28 +1.5V, 30 SMB_CLK, 32 SMB_DATA, 34 GND, 36 USB_DM, 38 USB_DP, 40 GND, 42 LED_WWAN#, 44 LED_WLAN#, 46 LED_WPAN#, 48 +1.5V, 50 GND, 52 +3.3V

## XS_MINI-PCIE_XTRTX_REV1
designator XS?
PartNumber: *
part A pins: 1 WAKE#, 3 1PPSI_GPIO1(1N) (in), 5 1PPSO_GPIO2(1P) (out), 7 CLKREQ# (in), 9 GND (power), 11 REF_CLK- (in), 13 REF_CLK+ (in), 15 GND (power), 17 TDD_GPIO3_N (out), 19 MHZ_IN (in), 21 GND (power), 23 PERn0 (out), 25 PERp0 (out), 27 GND (power), 29 GND (power), 31 PETn0 (in), 33 PETp0 (in), 35 GND (power), 37 GND (power), 39 PERp1 (out), 41 PERp1 (out), 43 GND (power), 45 GND (power), 47 PETn1 (in), 49 PETp1 (in), 51 GND (power)
part B pins: 2 +3.3V (power), 4 GND (power), 6 +1.5V, 8 UIM_PWR (out), 10 UIM_DATA (io), 12 UIM_CLK (out), 14 UIM_RESET (out), 16 UIM_VPP, 18 GND (power), 20 TDD_GPIO3_P (io), 22 PERST# (in), 24 +3.3Vaux, 26 GND (power), 28 +1.5V, 30 MHZ_OUT (out), 32 GPIO8 (in), 34 GND (power), 36 USB_DM (io), 38 USB_DP (io), 40 GND (power), 42 LED_WWAN#_GPIO5 (out), 44 LED_WLAN#_GPIO6 (out), 46 LED_WPAN#_GPIO7 (out), 48 +1.5V, 50 GND (power), 52 +3.3V (power)

## XS_USB-B_REV1
designator XS?
PartNumber: *
pins: 1 VBUS, 2 D-, 3 D+, 4 GND, Shield

## XT-1_REV1
designator XT?
PartNumber: *
pins: 1 Name1

## XT-2_REV1
designator XT?
PartNumber: *
pins: 1 Name1, 2 Name2

## XT-3_REV1
designator XT?
PartNumber: *
pins: 1 Name1, 2 Name2, 3 Name3